# Altium footprint library EISI.PcbLib: 695 footprints (part 13 of 44)
Each footprint in its own frame and in the unit in brackets; x right, y up, seen from the top. Pads: shape width x height; smd on the part's side, far side on the other; paste and mask are expansions set on the pad; w line width, h text height; cw(c..) or ccw(c..) is an arc to the next point about the centre after c.
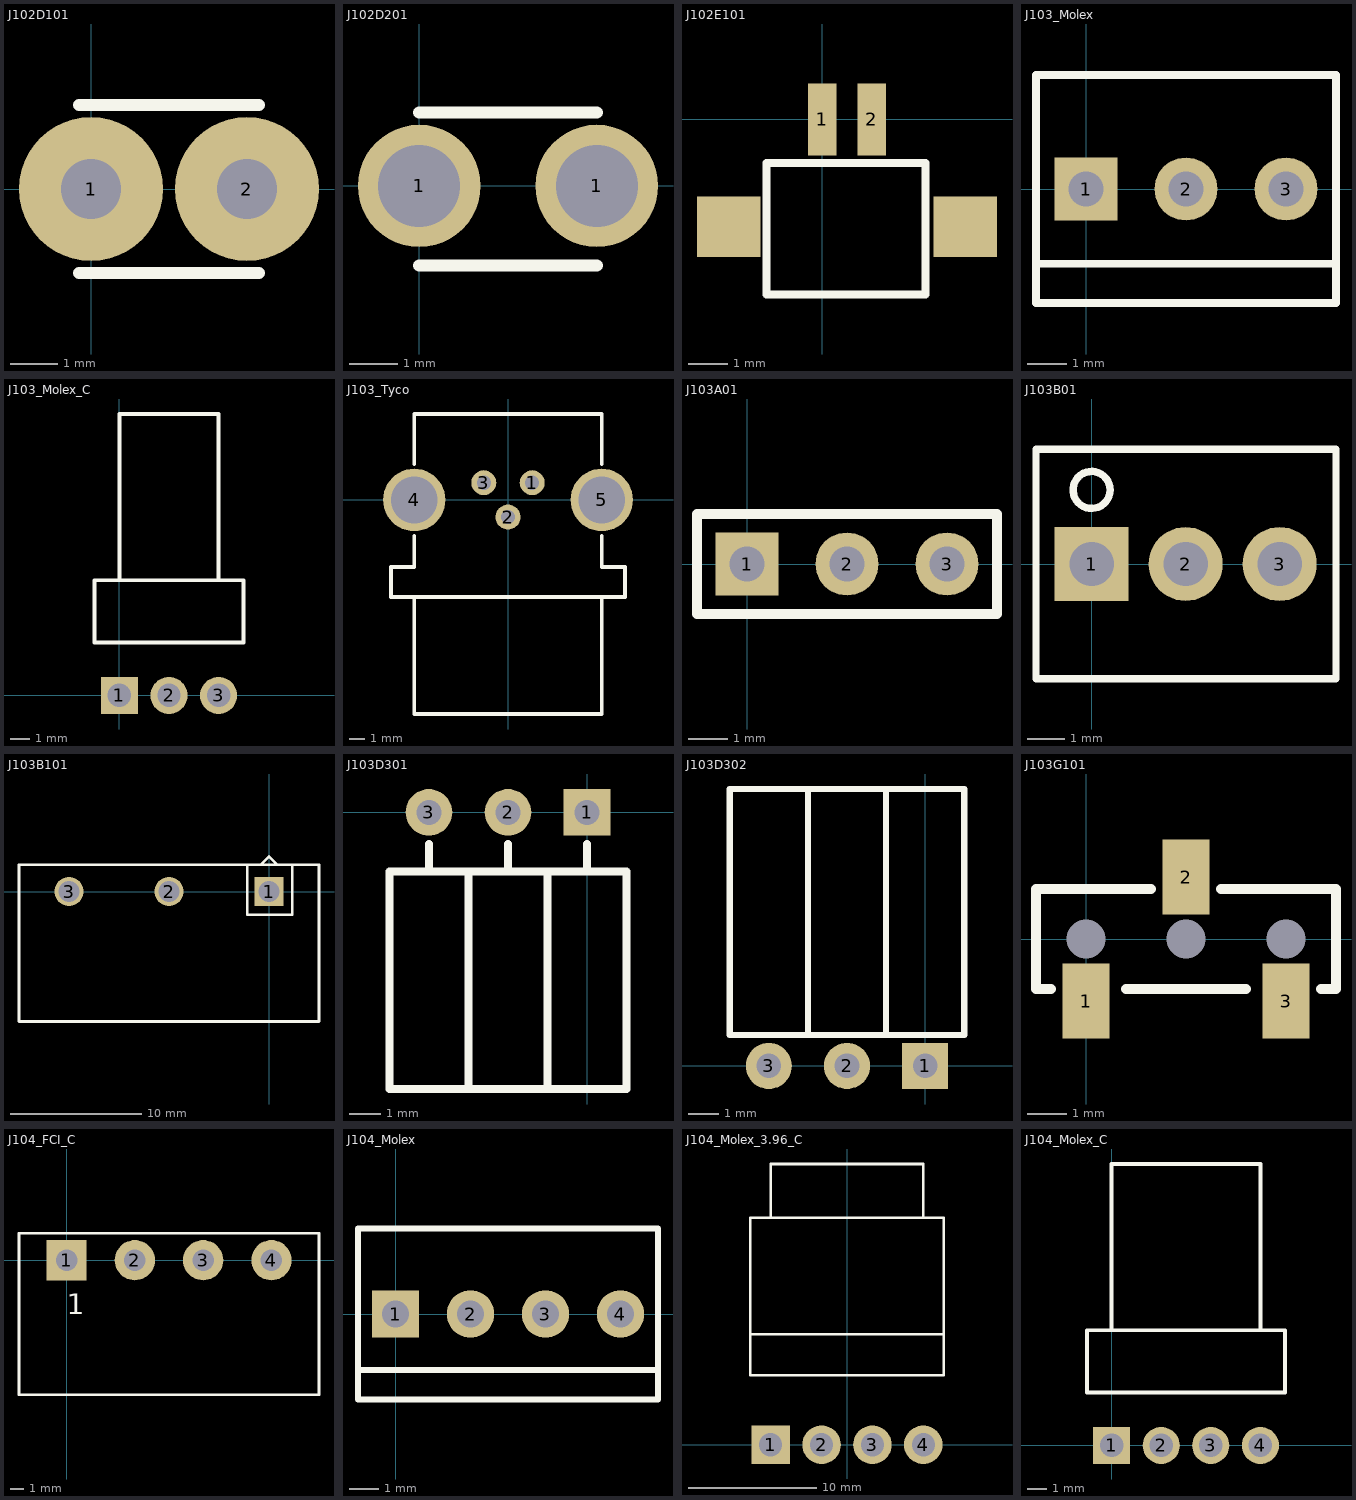
[diagram p12: the footprints below, top view; thin cyan lines are the x and y axes]

## J102D101 [mil]
pads (2):
  round 120 hole 50: 1(0,0) 2(129.92,0)
TopOverlay:
  lines w10: -10,-70 140,-70 ; -10,70 140,70

## J102D201 [mil]
pads (2):
  round 100 hole 67: 1(0,0) 1(145,0)
TopOverlay:
  lines w10: 0,-65 145,-65 ; 0,60 145,60

## J102E101 [mil]
pads (4):
  rect 28x71 smd: 1(0,0) 2(49.21,0)
  rect 63x60 smd: ""(-92.52,-106.3) ""(141.73,-106.3)
TopOverlay:
  lines w7.87: -55.12,-173.23 102.36,-173.23 102.36,-43.31 -55.12,-43.31 -55.12,-173.23

## J103_Molex [mm] "Connecteur Molex droit 3 pôles"
height 11.7
pads (3):
  rect 1.6x1.6 hole 0.9: 1(0,0)
  round 1.6 hole 0.9: 2(2.54,0) 3(5.08,0)
TopOverlay:
  lines w0.2: -1.27,-1.9 6.35,-1.9 ; -1.27,-2.9 6.35,-2.9 6.35,2.9 -1.27,2.9 -1.27,0 -1.27,-2.9

## J103_Molex_C [mm]
pads (3):
  rect 1.9x1.9 hole 1.2: 1(0,0)
  round 1.9 hole 1.2: 2(2.54,0) 3(5.08,0)
TopOverlay:
  lines w0.2: 0,5.9 0,14.42 5.08,14.42 5.08,5.9 ; -1.27,2.72 6.35,2.72 6.35,5.9 -1.27,5.9 -1.27,2.72

## J103_Tyco [mm] "T01-0560-S03 Prise d'appareil, Coudé, Montage print, Blindé"
height 15.5
pads (5):
  round 1.6 hole 0.9: 1(1.55,1.1) 2(0,-1.1) 3(-1.55,1.1)
  round 4 hole 3: 4(-6,0) 5(6,0)
TopOverlay:
  lines w0.25: -6,-6.2 -6,-13.7 6,-13.7 6,-6.2 ; -6,-2.3 -6,-4.3 -7.5,-4.3 -7.5,-6.2 7.5,-6.2 7.5,-4.3 6,-4.3 6,-2.3 ; -6,2.3 -6,5.5 6,5.5 6,2.3

## J103A01 [mm]
pads (3):
  rect 1.6x1.6 hole 0.9: 1(0,0)
  round 1.6 hole 0.9: 2(2.54,0) 3(5.08,0)
TopOverlay:
  lines w0.254: -1.27,-1.27 6.35,-1.27 6.35,1.27 -1.27,1.27 -1.27,-1.27

## J103B01 [mm] "Micro-Barette serre-fils pas 2.54mm"
height 8.5
pads (3):
  rect 2x2 hole 1.2: 1(0,0)
  round 2 hole 1.2: 2(2.54,0) 3(5.08,0)
TopOverlay:
  circle w0.2: c0,2 r0.5
  lines w0.2: -1.5,-3.1 -1.5,3.1 6.6,3.1 6.6,-3.1 -1.5,-3.1

## J103B101 [mil]
pads (3):
  rect 87x87 hole 63: 1(0,0)
  round 87 hole 63: 2(-300,0) 3(-600,0)
TopOverlay:
  lines w7.87: -65,80 -65,-70 70,-70 70,80 ; -25,80 0,105 25,80 ; -750,-390 150,-390 150,80 -120,80 -230,80 -665,80 -750,80 -750,-390

## J103D301 [mm]
pads (3):
  rect 1.5x1.5 hole 0.8: 1(0,0)
  round 1.5 hole 0.8: 2(-2.54,0) 3(-5.08,0)
TopOverlay:
  lines w0.254: -5.08,-1.905 -5.08,-1.016 ; -3.81,-8.89 -3.81,-1.905 ; -2.54,-1.905 -2.54,-1.016 ; -1.27,-8.89 -1.27,-1.905 ; 0,-1.905 0,-1.016 ; -6.35,-8.89 -6.35,-1.905 1.27,-1.905 1.27,-8.89 -6.35,-8.89

## J103D302 [mm]
pads (3):
  rect 1.5x1.5 hole 0.8: 1(0,0)
  round 1.5 hole 0.8: 2(-2.54,0) 3(-5.08,0)
TopOverlay:
  lines w0.2: -3.81,1 -3.81,9 ; -1.27,1 -1.27,9 ; -6.35,1 -6.35,9 1.27,9 1.27,1 -6.35,1

## J103G101 [mm]
pads (6):
  rect 1.194x1.905 smd: 1(0,-1.575) 2(2.54,1.575) 3(5.08,-1.575)
  round 0.3 hole 1: ""(0,0) ""(2.54,0) ""(5.08,0)
TopOverlay:
  lines w0.254: -0.889,-1.27 -1.27,-1.27 -1.27,1.27 1.651,1.27 ; 1.016,-1.27 4.064,-1.27 ; 3.429,1.27 6.35,1.27 6.35,-1.27 5.969,-1.27

## J104_FCI_C [mm] "TERM BLOCK HDR 4POS 5.08MM R/A FCI"
height 8.5
pads (4):
  rect 3x3 hole 1.6: 1(0,0)
  round 3 hole 1.6: 2(5.08,0) 3(10.16,0) 4(15.24,0)
TopOverlay:
  lines w0.2: -3.54,-10 -3.54,2 18.78,2 18.78,-10 -3.54,-10
  text "1" at 0,-4 h1.52

## J104_Molex [mm] "Connecteur Molex droit 4 pôles"
height 11.7
pads (4):
  rect 1.6x1.6 hole 0.9: 1(0,0)
  round 1.6 hole 0.9: 2(2.54,0) 3(5.08,0) 4(7.62,0)
TopOverlay:
  lines w0.2: -1.27,-1.9 8.89,-1.9 ; -1.27,-2.9 -1.27,0 -1.27,2.9 8.89,2.9 8.89,-2.9 -1.27,-2.9

## J104_Molex_3.96_C [mm] "Molex 4 pôles coudé pitch 3.96mm"
height 10.75
pads (4):
  rect 3x3 hole 1.8: 1(-5.94,0)
  round 3 hole 1.8: 2(-1.98,0) 3(1.98,0) 4(5.94,0)
TopOverlay:
  lines w0.2: -7.54,8.6 7.54,8.6 ; -5.94,17.65 -5.94,21.85 5.94,21.85 5.94,17.65 ; -7.54,5.4 7.54,5.4 7.54,17.65 -7.54,17.65 -7.54,5.4

## J104_Molex_C [mm]
pads (4):
  rect 1.9x1.9 hole 1.2: 1(0,0)
  round 1.9 hole 1.2: 2(2.54,0) 3(5.08,0) 4(7.62,0)
TopOverlay:
  lines w0.2: 0,5.9 0,14.42 7.62,14.42 7.62,5.9 ; -1.27,2.72 8.89,2.72 8.89,5.9 -1.27,5.9 -1.27,2.72